# Altium footprint library PROTECT_TVS_ESD_FUSE.PcbLib: 75 footprints (part 5 of 5)
Each footprint in its own frame and in the unit in brackets; x right, y up, seen from the top. Pads: shape width x height; smd on the part's side, far side on the other; paste and mask are expansions set on the pad; w line width, h text height; cw(c..) or ccw(c..) is an arc to the next point about the centre after c.
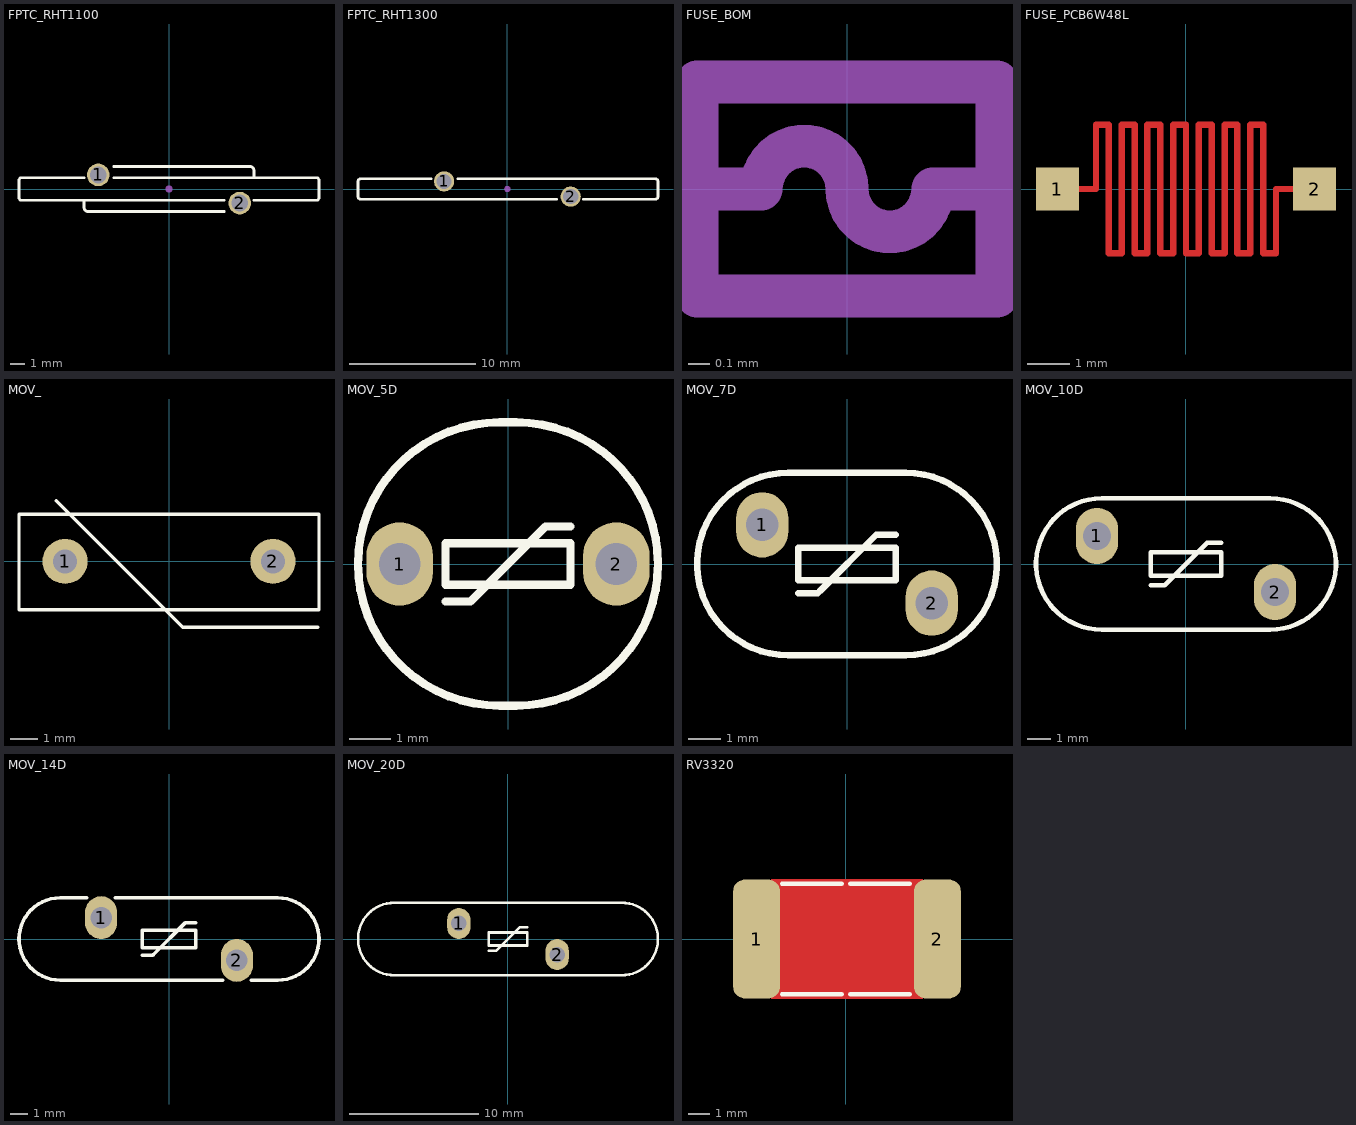
[diagram p4: the footprints below, top view; thin cyan lines are the x and y axes]

## FPTC_RHT1100 [mm] "Fuse PTC, MF-RHT1100, 21mm"
height 27
pads (3):
  round 0.5 on Mech15: 0(0,0)
  round 1.6 / inner round 1.6 / far side round 2.4 hole 1.2: 1(-5,1) 2(5,-1)
Top Overlay:
  lines w0.2: -6,-0.8 -6,-1.3 ccw(c-5.7,-1.3) -5.7,-1.6 3.9,-1.6 ; -6,0.8 -10.4,0.8 ccw(c-10.4,0.6) -10.6,0.6 -10.6,-0.6 ccw(c-10.4,-0.6) -10.4,-0.8 3.9,-0.8 ; -3.9,0.8 10.4,0.8 cw(c10.4,0.6) 10.6,0.6 10.6,-0.6 cw(c10.4,-0.6) 10.4,-0.8 6,-0.8 ; -3.9,1.6 5.7,1.6 cw(c5.7,1.3) 6,1.3 6,0.8
3D body "MF-RHT1100.step": height 25.75, standoff -3.85, extent -10.5,-1.459 10.5,1.459

## FPTC_RHT1300 [mm] "Fuse PTC, MF-RHT1300, 23.5mm"
height 27
pads (3):
  round 0.5 on Mech15: 0(0,0)
  round 1.6 / inner round 1.6 / far side round 2.4 hole 1.2: 1(-5,0.6) 2(5,-0.6)
Top Overlay:
  lines w0.2: -6,0.8 -11.6,0.8 ccw(c-11.6,0.6) -11.8,0.6 -11.8,-0.6 ccw(c-11.6,-0.6) -11.6,-0.8 3.9,-0.8 ; -3.9,0.8 11.7,0.8 cw(c11.7,0.6) 11.9,0.6 11.9,-0.6 cw(c11.7,-0.6) 11.7,-0.8 6,-0.8
3D body "MF-RHT1300.step": height 28.75, standoff -3.95, extent -11.75,-1.459 11.75,1.459

## FUSE_BOM [mm] "Fuse only for BOM"
height 10
Mechanical 13:
  lines w0.2: -0.7,0 -0.4,0 cw(c-0.2,0) 0,0 ccw(c0.2,0) 0.4,0 0.7,0 ; -0.7,-0.5 -0.7,0.5 0.7,0.5 0.7,-0.5 -0.7,-0.5

## FUSE_PCB6W48L [mm] "PCB Fuse, 0.15mm wide, accordion shape, 48mm length, fuse time depends on substrate and current"
pads (2):
  rrect1% 1x1 smd paste-2: 1(-3,0) 2(3,0)
Top Layer:
  lines w0.15: -3,0 -2.1,0 -2.1,1.5 -1.8,1.5 -1.8,-1.5 -1.5,-1.5 -1.5,1.5 -1.2,1.5 -1.2,-1.5 -0.9,-1.5 -0.9,1.5 -0.6,1.5 -0.6,-1.5 -0.3,-1.5 -0.3,1.5 0,1.5 0,-1.5 0.3,-1.5 0.3,1.5 0.6,1.5 0.6,-1.5 0.9,-1.5 0.9,1.5 1.2,1.5 1.2,-1.5 1.5,-1.5 1.5,1.5 1.8,1.5 1.8,-1.5 2.1,-1.5 2.1,0 3,0

## MOV_ [mil] "VDR, VARISTOR,"
pads (2):
  round 65 hole 35: 1(-150,0) 2(150,0)
Top Overlay:
  lines w5: -162.5,87.5 20,-95 215,-95 ; -216.47,-69.99 -216.47,68.36 216.43,68.36 216.43,-69.99 -216.47,-69.99
3D body "JVR10N331k_vertical.STEP": height 472.44, standoff -98.43, extent -216.47,-69.99 216.47,68.36

## MOV_5D [mm] "VDR, VARISTOR, 7X6.5, pitch: 5.0mm"
pads (2):
  oval 1.6x2 hole 1: 1(-2.6,0) 2(2.6,0)
Top Overlay:
  lines w0.2: -1.5,-0.9 -0.9,-0.9 -0.8,-0.8 0.9,0.9 1.5,0.9 ; -1.5,-0.5 -1.5,0.5 1.5,0.5 1.5,-0.5 -1.5,-0.5 ; -0.2,-3.4 cw(c-0.2,0) -0.2,3.4 0.2,3.4 cw(c0.2,0) 0.2,-3.4 -0.2,-3.4
3D body "MOV5D_vdrs05bke.SLDPRT": height 11, standoff -3, extent -3.498,-3.25 3.498,3.25

## MOV_7D [mm] "VDR, VARISTOR, 9X5.6, pitch: 5.0mm, 275VAC(RMS)"
pads (2):
  oval 1.6x2 hole 1: 1(-2.6,1.2) 2(2.6,-1.2)
Top Overlay:
  lines w0.2: -1.5,-0.9 -0.9,-0.9 -0.8,-0.8 0.9,0.9 1.5,0.9 ; -1.8,-2.8 cw(c-1.8,0) -1.8,2.8 1.8,2.8 cw(c1.8,0) 1.8,-2.8 -1.8,-2.8 ; -1.5,-0.5 1.5,-0.5 1.5,0.5 -1.5,0.5 -1.5,-0.5
3D body "MOV7D-Varistor 7mm.SLDPRT": height 12.5, standoff -2.5, extent -4.494,-2.8 4.494,2.8

## MOV_10D [mm] "VDR, VARISTOR, 12.5X5.6, pitch: 7.6mm, 420VAC(RMS)"
pads (2):
  oval 1.8x2.4 hole 1.2: 1(-3.8,1.2) 2(3.8,-1.2)
Top Overlay:
  lines w0.2: -1.5,-0.9 -0.9,-0.9 -0.8,-0.8 0.9,0.9 1.5,0.9 ; -3.6,-2.8 cw(c-3.6,0) -3.6,2.8 3.6,2.8 cw(c3.6,0) 3.6,-2.8 -3.6,-2.8 ; -1.5,-0.5 1.5,-0.5 1.5,0.5 -1.5,0.5 -1.5,-0.5
3D body "MOV10D-Varistor 10mm.SLDPRT": height 16.25, standoff -2.75, extent -6.245,-2.8 6.245,2.8
3D body "MOV-14D471K.STEP": height 2.2, standoff -2.2, extent 12.55,-16.6 29.05,23.381

## MOV_14D [mm] "VDR, VARISTOR, 16.5X4.4, pitch: 7.6mm"
pads (2):
  oval 1.8x2.4 hole 1.2: 1(-3.8,1.2) 2(3.8,-1.2)
Top Overlay:
  lines w0.2: -4.6,2.3 -6.1,2.3 ccw(c-6.1,0) -6.1,-2.3 3,-2.3 ; -3,2.3 6.1,2.3 cw(c6.1,0) 6.1,-2.3 4.6,-2.3 ; -1.5,-0.9 -0.9,-0.9 -0.8,-0.8 0.9,0.9 1.5,0.9 ; -1.5,-0.5 -1.5,0.5 1.5,0.5 1.5,-0.5 -1.5,-0.5
3D body "MOV-14D471K.STEP": height 20.48, standoff -19.5, extent -8.25,-2.2 8.25,2.2

## MOV_20D [mm] "VDR, VARISTOR, 23X5.6mm, pitch: 7.6mm, MOV-07DxxxK Metal Oxide Varistor (MOVs)"
pads (2):
  oval 1.8x2.4 hole 1.2: 1(-3.8,1.2) 2(3.8,-1.2)
Top Overlay:
  lines w0.2: -1.5,-0.9 -0.9,-0.9 -0.8,-0.8 0.9,0.9 1.5,0.9 ; -8.8,-2.8 cw(c-8.8,0) -8.8,2.8 8.8,2.8 cw(c8.8,0) 8.8,-2.8 -8.8,-2.8 ; -1.5,-0.5 1.5,-0.5 1.5,0.5 -1.5,0.5 -1.5,-0.5
3D body "MOV20D-Varistor 20mm.SLDPRT": height 26.5, standoff -3, extent -11.492,-2.8 11.492,2.8

## RV3320 [mm] "MOV varistor, 3320, 8.5x5.3x2.0mm, littleFuse CH series"
height 2
pads (2):
  rrect50% 2.2x5.6 smd paste-2 mask+0.075: 1(-4.2,0) 2(4.3,0)
Top Layer:
  pour cut-out: -3.5,2.8 -3.5,-2.8 3.6,-2.8 3.6,2.8
Top Overlay:
  lines w0.2: -3,-2.6 -0.2,-2.6 ; -3,2.6 -0.2,2.6 ; 0.2,-2.6 3,-2.6 ; 0.2,2.6 3,2.6
15 - Top Courtyards:
  lines w0.1: -0.5,0 0.5,0 ; 0,-0.5 0,0.5 ; -2.35,-1.175 2.35,-1.175 2.35,1.175 -2.35,1.175 -2.35,-1.175
3D body "V430CH8.stp": height 2, standoff 0, extent -4.103,-2.49 4.102,2.49